# EAGLE library part ADT7410 (library ADT7410)
ADT7410 - 13-bit 0.5°C I2C Temperature Sensor Operating Voltage: 2.7-5.5V Temperature Range: -55°C-150°C Accuracy: 0.5°C from -40°C-105°C Shutdown Current: 2uA (3.3V) Typical Operating Current (1 Sample/s): 46uA (3.3V) Digikey: ADT7410TRZ-ND
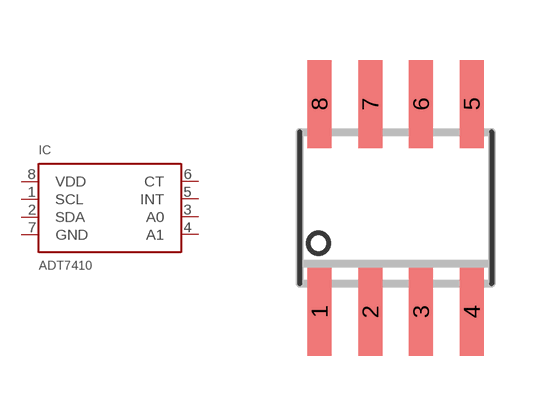
[diagram p0: symbol with the pads of SOIC8; footprint SOIC8]

Designator prefix IC

## ADT7410 (DESCRIPTION: ADI 0.5'C Accurate Temp Sensor-I2C Interface; DIGI-KEY_PART_NUMBER: ADT7410TRZ-REEL7CT-ND; DIGI-KEY_PURCHASE_URL: https://www.digikey.jp/product-detail/en/analog-devices-inc/ADT7410TRZ-REEL7/ADT7410TRZ-REEL7CT-ND/3674809?utm_source=snapeda&utm_medium=aggregator&utm_campaign=symbol; MF: Analog Devices; MP: ADT7410; PACKAGE: SOIC-8 Analog Devices)  [SOIC8]
1  SCL
2  SDA
3  A0
4  A1
5  INT
6  CT
7  GND  pwr
8  VDD  pwr

## Footprint SOIC8 (pad centres in mm)
Small Outline IC
smd 0.6 x 2.2: 1 -1.905,-2.6; 2 -0.635,-2.6; 3 0.635,-2.6; 4 1.905,-2.6; 5 1.905,2.6; 6 0.635,2.6; 7 -0.635,2.6; 8 -1.905,2.6